# Altium footprint library PCB - JUMPER - CHIP - RES 0603_1608.PCBLIB: 1 footprints
Each footprint in its own frame and in the unit in brackets; x right, y up, seen from the top. Pads: shape width x height; smd on the part's side, far side on the other; paste and mask are expansions set on the pad; w line width, h text height; cw(c..) or ccw(c..) is an arc to the next point about the centre after c.
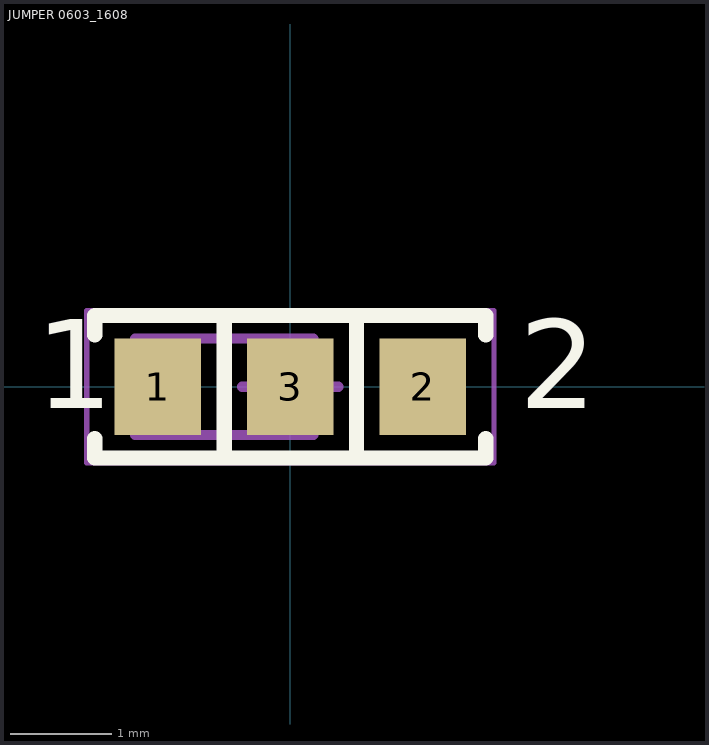
[diagram p0: the footprint, top view; thin cyan lines are the x and y axes]

## JUMPER 0603_1608 [mm] "Chip Resistor, 2-Leads, Body 1.60x0.80mm, IPC Medium Density"
height 0.45
pads (3):
  rect 0.85x0.95 smd: 1(-1.3,0) 2(1.3,0) 3(0,0)
Top Overlay:
  lines w0.15: -1.92,-0.508 -1.92,-0.7 0,-0.7 1.92,-0.7 1.92,-0.508 ; -1.92,0.508 -1.92,0.7 0,0.7 1.92,0.7 1.92,0.508 ; -0.65,-0.7 -0.65,0.7 ; 0.65,-0.7 0.65,0.7
  text "2" at 2.251,-0.5 h1.5
  text "1" at -2.5,-0.5 h1.5
Mechanical 13:
  lines w0.1: -1.525,-0.475 0.225,-0.475 0.225,0.475 -1.525,0.475 -1.525,-0.475
Mechanical 15:
  lines w0.05: -2,-0.75 2,-0.75 2,0.75 -2,0.75 -2,-0.75
Mechanical 2 (Mech9):
  lines w0.1: -0.475,0 0.475,0 ; 0,-0.475 0,0.475
3D body "0603 resistor.STEP": height 0.45, standoff 0, extent -1.45,-0.4 0.15,0.4